# Altium schematic symbol library 08053C-104KAT2A.SchLib: 1 symbol
Pins are listed as number, name and electrical type; pins without a type are passive.

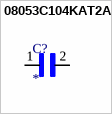
[diagram p0: symbol 08053C104KAT2A]

## 08053C104KAT2A
designator C?
Cap Ceramic 0.1uF 25V X7R 10% Pad SMD 0805 125ÂÂŽ T/R; MP: 08053C104KAT2A; MF: {'manufacturer': u'AVX Interconnect / Elco'}; Price: None; Availability: Unavailable; Value: *; Package: None
footprint CAPC2012X94N
pins: 1, 2